# Altium footprint library isolationScaleSMD_V4 - Copy1.PcbLib: 22 footprints (part 2 of 2)
Each footprint in its own frame and in the unit in brackets; x right, y up, seen from the top. Pads: shape width x height; smd on the part's side, far side on the other; paste and mask are expansions set on the pad; w line width, h text height; cw(c..) or ccw(c..) is an arc to the next point about the centre after c.
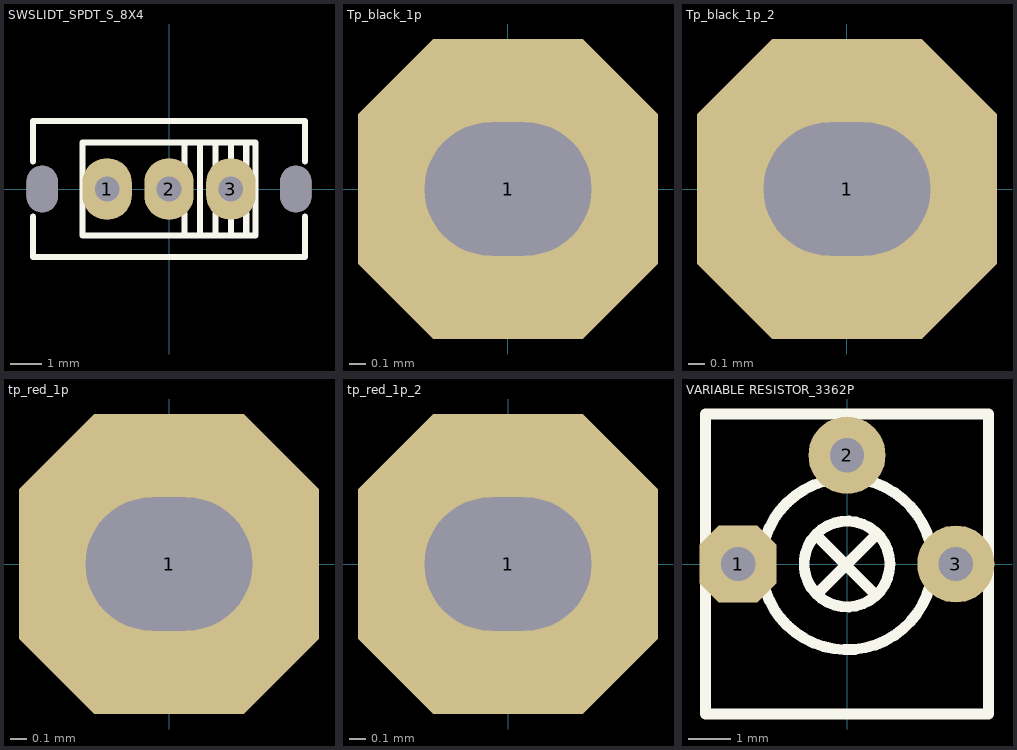
[diagram p1: the footprints below, top view; thin cyan lines are the x and y axes]

## SWSLIDT_SPDT_S_8X4 [mm] "Switch, Slide, SPDT, Straight, THD, 8.6X4.3mm"
height 10
pads (5):
  oval 1.6x2 hole 0.8: 1(-2,0) 2(0,0) 3(2,0)
  oval 1x1.5 hole 1 slot 1.5 at 90 deg unplated: ""(-4.1,0) ""(4.1,0)
Top Overlay:
  lines w0.2: -4.4,-0.9 -4.4,-2.2 4.4,-2.2 4.4,-0.9 ; -4.4,0.9 -4.4,2.2 4.4,2.2 4.4,0.9 ; 0.5,-1.5 0.5,-0.8 ; 0.5,0.7 0.5,1.5 ; 1,-1.5 1,1.5 ; 1.5,-1.5 1.5,-0.8 ; 1.5,0.7 1.5,1.5 ; 2,-1.5 2,-1 ; 2,0.9 2,1.5 ; 2.5,-1.5 2.5,-0.8 ; 2.5,0.8 2.5,1.5 ; -2.8,-1.5 -2.8,1.5 2.8,1.5 2.8,-1.5 -2.8,-1.5
3D body "OS102011MS2QN1.stp": height 8.8, standoff -2.7, extent -4.3,-2.15 4.3,2.15

## Tp_black_1p [mm]
height 8.5
pads (1):
  oct 1.8x1.8 hole 0.8 slot 1 at 0 deg: 1(0,0)
3D body "testpin black 1mm.stp": height 5, standoff -2.53, extent -1.15,-1.15 1.15,1.151

## Tp_black_1p_2 [mm]
pads (1):
  oct 1.8x1.8 hole 0.8 slot 1 at 0 deg: 1(0,0)
3D body "testpin black 1mm.stp": height 5, standoff -2.53, extent -1.15,-1.15 1.15,1.151

## tp_red_1p [mm]
height 8.5
pads (1):
  oct 1.8x1.8 hole 0.8 slot 1 at 0 deg: 1(0,0)
3D body "testpin red 1mm.stp": height 5, standoff -2.53, extent -1.15,-1.15 1.15,1.15

## tp_red_1p_2 [mm]
pads (1):
  oct 1.8x1.8 hole 0.8 slot 1 at 0 deg: 1(0,0)
3D body "testpin red 1mm.stp": height 5, standoff -2.53, extent -1.15,-1.15 1.15,1.15

## VARIABLE RESISTOR_3362P [mm]
height 8.5
pads (3):
  oct 1.8x1.8 hole 0.8: 1(-2.54,0)
  round 1.8 hole 0.8: 2(0,2.54) 3(2.54,0)
Top Overlay:
  circle w0.254: c0,0 r1
  circle w0.254: c0,0 r2
  lines w0.254: -0.7,0.65 0.6,-0.65 ; -0.65,-0.7 -0.7,-0.7 0.7,0.7 ; -3.3,-3.5 -3.3,3.5 3.3,3.5 3.3,-3.5 -3.3,-3.5
3D body "User Library-Bourns 3362P.step": height 4.7, standoff -5.47, extent -3.3,-3.781 3.3,3.273